# EAGLE library part LTC3526B (library PowerProducts)
500mA 1MHz Synchronous Step-Up DC/DC Converters in 2mm x 2mm DFN
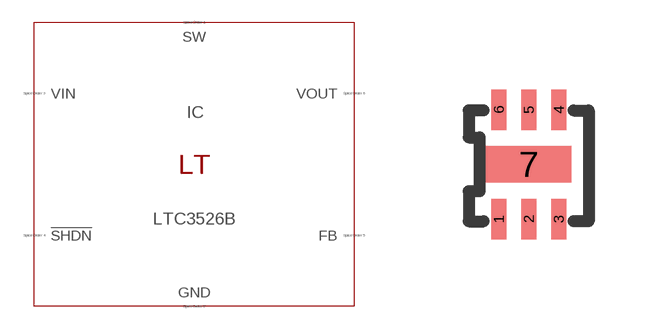
[diagram p206: symbol with the pads of DFN6(DC); footprint DFN6(DC)]

Designator prefix IC

## LTC3526B (SPICEMODEL: LTC3526B.sub; SPICEPREFIX: X; VALUE2: LTC3526B)  [DFN6(DC)]
1  SW  pas
2  GND  pas
3  VIN  pas
4  !SHDN  pas
5  FB  pas
6  VOUT  pas
7  GND  pas

## Footprint DFN6(DC) (pad centres in mm)
Package generated from: DFN6(DC).asc (!PADS-POWERPCB-V5.0-BASIC! DESIGN DATABASE ASCII FILE 1.0) with :import-pads-powerpcb-v5.ulp Version 1.0.1 at 04.10.2012 14:11:17
smd 0.375 x 1.012: 1 -0.75,-1.369; 2 0,-1.369; 3 0.75,-1.369; 4 0.75,1.369; 5 0,1.369; 6 -0.75,1.369
smd 2.13 x 0.915: 7 0,0